# EAGLE library part CLKPLL (library pll-jlb)
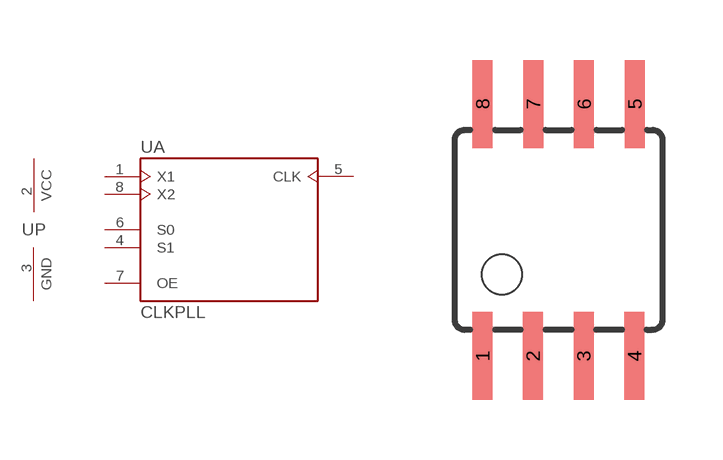
[diagram p0: symbol with the pads of SOIC8; footprint SOIC8]

Designator prefix -; gates A=CLKPLL P=PWRGND

## CLKPLL  [SOIC8]
1  A:X1
2  P:VCC  pwr
3  P:GND  pwr
4  A:S1
5  A:CLK
6  A:S0
7  A:OE  in
8  A:X2

## Footprint SOIC8 (pad centres in mm)
Wide Plastic Gull Wing Small Outline Package
smd 0.5 x 2.2: 1 -1.905,-3.154; 2 -0.645,-3.154; 3 0.625,-3.154; 4 1.895,-3.154; 5 1.905,3.154; 6 0.635,3.154; 7 -0.635,3.154; 8 -1.905,3.154